# Altium schematic symbol library PPPC042LFBN-RC.SchLib: 1 symbol
Pins are listed as number, name and electrical type; pins without a type are passive.

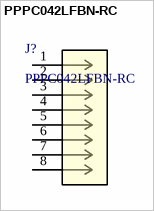
[diagram p0: symbol PPPC042LFBN-RC]

## PPPC042LFBN-RC
designator J?
Description; Manufacturer_Name: Sullins; Copyright: Copyright (C) 2025 Ultra Librarian. All rights reserved.; Manufacturer_Part_Number: PPPC042LFBN-RC; RefDes: RefDes; Type: Type
footprint CONN8_2LFBN-RC_SUL
pins: 1, 2, 3, 4, 5, 6, 7, 8